# EAGLE library part 6120XX235221_612010235221 (library WR-BHD)
WR-BHD 2.54 mm Male Characteristics Working Voltage: 250 V UL approval: E323964 UL94-V0 Applications Industrial Production lines Details see: www.we-online.com/components/products/WTB_WR_BHD_BOX_HEADER_2_54MM_MALE_PCB Updated by Ella 2026-09-16 2026 (C) Würth Elektronik
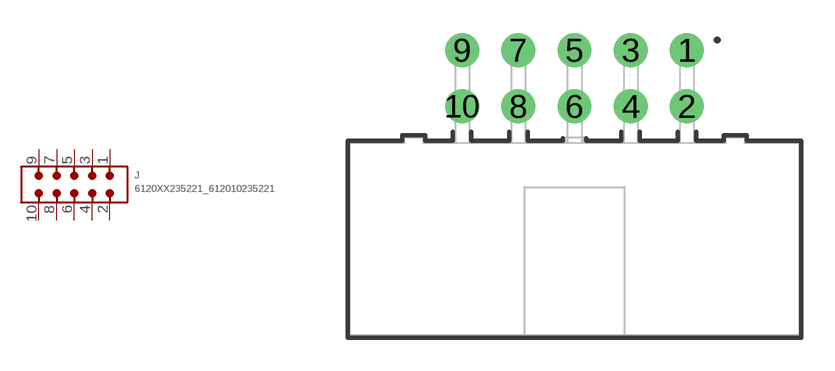
[diagram p9: symbol with the pads of 612010235221; footprint 612010235221]

Designator prefix J

## 6120XX235221_612010235221 (CATEGORY: Connectors; DATASHEET: https://www.we-online.com/redexpert/spec/612010235221?ae; GENDER: Male; LENGTH: 20.3 mm; MANUFACTURER: Würth Elektronik; MOUNT: THT; MPN: 612010235221; OPERATING_TEMPERATURE: -40 °C up to +125 °C; PACKAGING: Tray; PINS: 10; PITCH: 2.54mm; RATED_CURRENT: 3 A; SIZE: THT Angled - High Temperature; TYPE: Angled; VALUE: 612010235221; VERSION: Low Profile)  [612010235221]
1  1  pas
2  2  pas
3  3  pas
4  4  pas
5  5  pas
6  6  pas
7  7  pas
8  8  pas
9  9  pas
10  10  pas

## Footprint 612010235221 (pad centres in mm)
WR-BHD Wire-to-Board Connectors, 2.54mm, Male, THT Angled - High Temperature, 10pins
drill 1.02: 1 5.08,8.54; 2 5.08,6; 3 2.54,8.54; 4 2.54,6; 5 0,8.54; 6 0,6; 7 -2.54,8.54; 8 -2.54,6; 9 -5.08,8.54; 10 -5.08,6